# Altium schematic symbol library 1206L075THYR.SchLib: 1 symbol
Pins are listed as number, name and electrical type; pins without a type are passive.

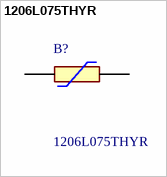
[diagram p0: symbol 1206L075THYR]

## 1206L075THYR
designator B?
Resettable Fuses - PPTC PTC 8V 1206 0.75A POLYFUSE SMD THIN; Manufacturer_Name: LITTELFUSE; Geometry.Height: 0.75mm; Mouser Part Number: 576-1206L075THYR; Mouser Price/Stock: https://www.mouser.co.uk/ProductDetail/Littelfuse/1206L075THYR?qs=eUFwbO5xkChRsIXzzQG%2FMA%3D%3D; Manufacturer_Part_Number: 1206L075THYR; Datasheet Link: https://m.littelfuse.com/~/media/electronics/datasheets/resettable_ptcs/littelfuse_ptc_1206l_datasheet.pdf.pdf
footprint 1206L05015YR
pins: 1, 2